# EAGLE library part TB6612FNG (library PowerIC_spark)
Toshiba 1A dual motor driver IC-09363
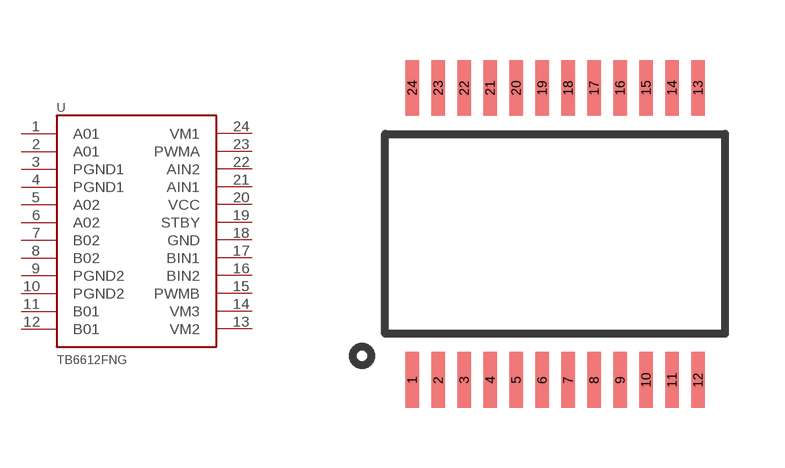
[diagram p36: symbol with the pads of SSOP24; footprint SSOP24]

Designator prefix -

## TB6612FNG (PROD_ID: IC-09363; VALUE: TB6612FNG)  [SSOP24]
1  A01
2  A01
3  PGND1
4  PGND1
5  A02
6  A02
7  B02
8  B02
9  PGND2
10  PGND2
11  B01
12  B01
13  VM2
14  VM3
15  PWMB
16  BIN2
17  BIN1
18  GND
19  STBY
20  VCC
21  AIN1
22  AIN2
23  PWMA
24  VM1

## Footprint SSOP24 (pad centres in mm)
smd 0.348 x 1.397: 1 -3.575,-3.656; 2 -2.925,-3.656; 3 -2.275,-3.656; 4 -1.625,-3.656; 5 -0.975,-3.656; 6 -0.325,-3.656; 7 0.325,-3.656; 8 0.975,-3.656; 9 1.625,-3.656; 10 2.275,-3.656; 11 2.925,-3.656; 12 3.575,-3.656; 13 3.575,3.656; 14 2.925,3.656; 15 2.275,3.656; 16 1.625,3.656; 17 0.975,3.656; 18 0.325,3.656; 19 -0.325,3.656; 20 -0.975,3.656; 21 -1.625,3.656; 22 -2.275,3.656; 23 -2.925,3.656; 24 -3.575,3.656